# Altium footprint library REF3033AIDBZT.PcbLib: 1 footprints
Each footprint in its own frame and in the unit in brackets; x right, y up, seen from the top. Pads: shape width x height; smd on the part's side, far side on the other; paste and mask are expansions set on the pad; w line width, h text height; cw(c..) or ccw(c..) is an arc to the next point about the centre after c.
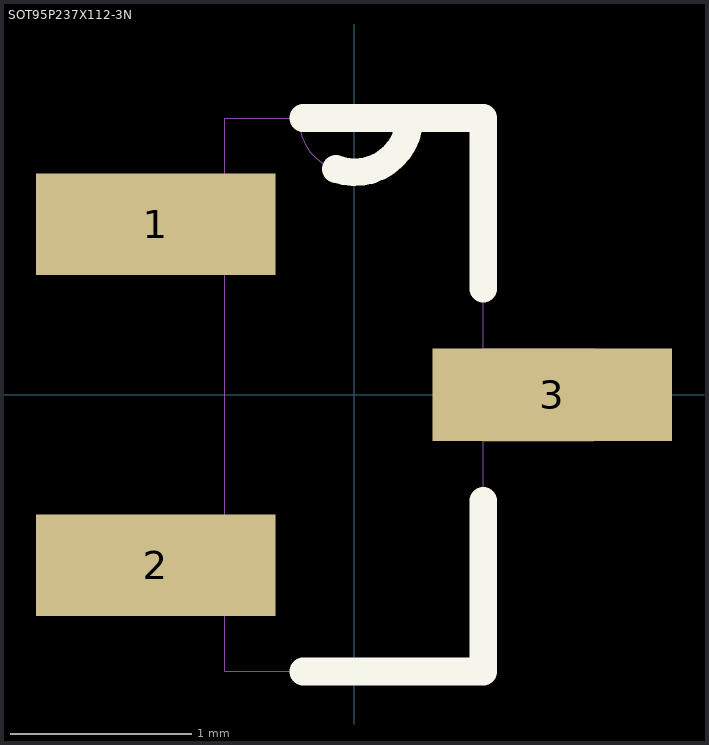
[diagram p0: the footprint, top view; thin cyan lines are the x and y axes]

## SOT95P237X112-3N [mil]
pads (3):
  rect 52x22 smd: 1(-43,37) 2(-43,-37)
  rect 52x20 smd: 3(43,0)
Top Overlay:
  lines w6: -11,-60 28,-60 28,-23 ; -11,60 12,60 28,60 28,23 ; -3.9,48.96 ccw(c0.15,60.1) 12,60.1
Mechanical 4:
  lines w0: -52,-47 -28,-47 ; -52,-47 -52,-28 ; -52,-47 -28,-47 ; -52,-47 -52,-28 ; -52,-28 -28,-28 ; -52,-28 -28,-28 ; -52,28 -28,28 ; -52,28 -52,47 ; -52,28 -28,28 ; -52,28 -52,47 ; -52,47 -28,47 ; -52,47 -28,47 ; -28,-60 -28,-47 ; -28,-60 28,-60 ; -28,-60 -28,-47 ; -28,-60 28,-60 ; -28,-47 -28,-28 ; -28,-47 -28,-28 ; -28,-28 -28,28 ; -28,-28 -28,28 ; -28,28 -28,47 ; -28,28 -28,47 ; -28,47 -28,60 ; -28,47 -28,60 ; -28,60 -12,60 ; -28,60 -12,60 ; -12,60 ccw(c0,60) 12,60 ; -12,60 ccw(c0,60) 12,60 ; -12,60 12,60 ; -12,60 12,60 ; 12,60 28,60 ; 12,60 28,60 ; 28,-60 28,-10 ; 28,-60 28,-10 ; 28,-10 52,-10 ; 28,-10 28,10 ; 28,-10 52,-10 ; 28,-10 28,10 ; 28,10 52,10 ; 28,10 28,60 ; 28,10 52,10 ; 28,10 28,60 ; 52,-10 52,10 ; 52,-10 52,10
3D body "BSS138_D87Z--3DModel-STEP-56544.STEP": height 45.67, standoff -1.57, extent -47.24,-57.48 47.25,57.48